# Altium footprint library PowerGet.PcbLib: 19 footprints (part 2 of 2)
Each footprint in its own frame and in the unit in brackets; x right, y up, seen from the top. Pads: shape width x height; smd on the part's side, far side on the other; paste and mask are expansions set on the pad; w line width, h text height; cw(c..) or ccw(c..) is an arc to the next point about the centre after c.
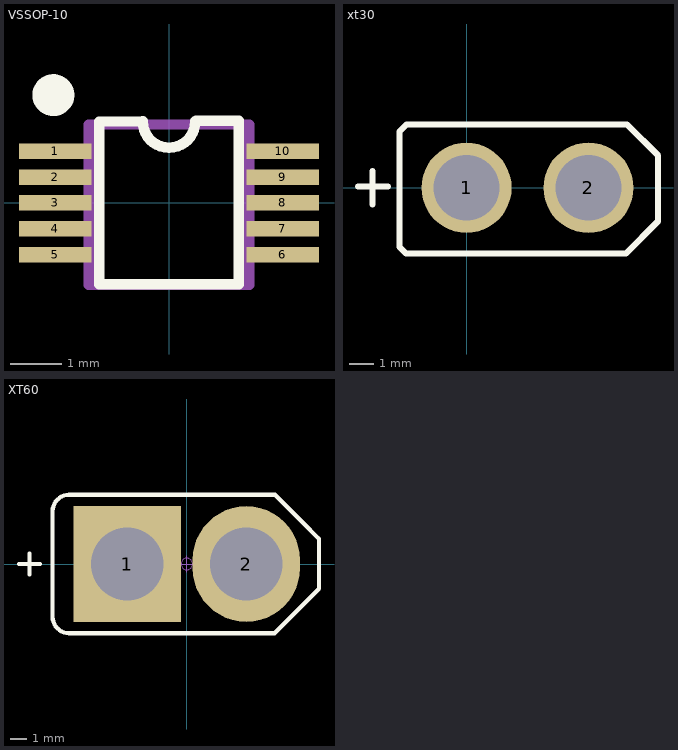
[diagram p1: the footprints below, top view; thin cyan lines are the x and y axes]

## VSSOP-10 [mm]
pads (10):
  rect 1.4x0.3 smd mask+0.05: 1(-2.2,1) 2(-2.2,0.5) 3(-2.2,0) 4(-2.2,-0.5) 5(-2.2,-1) 6(2.2,-1) 7(2.2,-0.5) 8(2.2,0) 9(2.2,0.5) 10(2.2,1)
Top Overlay:
  circle w0.5: c-2.235,2.083 r0.155
  lines w0.2: -0.508,1.575 -1.346,1.575 -1.346,-1.575 1.346,-1.575 1.346,1.591 0.524,1.591
  lines w0.203: -0.508,1.575 ccw(c0,1.575) 0,1.067 ccw(c0,1.575) 0.508,1.575
Mechanical 13:
  lines w0.2: -1.549,-1.586 -1.549,1.514 1.551,1.514 1.551,-1.586 -1.549,-1.586
3D body "User Library-DGS0010A.STEP": height 1.1, standoff 0, extent -2.462,-1.5 2.463,1.5

## xt30 [mm]
height 1.7
pads (2):
  round 3.7 hole 2.7: 1(0,0) 2(5,0)
Top Overlay:
  lines w0.254: -4.45,0.05 -3.225,0.05 ; -3.85,-0.675 -3.85,0.675 ; -2.75,-2.425 -2.75,2.3 -2.45,2.6 0,2.6 6.575,2.6 7.85,1.325 7.85,-1.375 6.525,-2.7 -2.475,-2.7 -2.75,-2.425
3D body "User Library-XT30.STEP": height 12.6, standoff -2.9, extent -2.625,-2.7 7.775,2.6

## XT60 [mm] "长：16mm，宽：8.2mm，高：16mm"
pads (2):
  rect 6.5x7 hole 4.4: 1(-3.6,0)
  oval 6.5x7 hole 4.4: 2(3.6,0)
Top Overlay:
  lines w0.254: -10.16,0 -8.89,0 ; -9.525,-0.635 -9.525,0.635 ; -8.128,-3.191 ccw(c-7.128,-3.191) -7.128,-4.191 5.309,-4.191 8,-1.5 8,1.525 6.985,2.54 5.334,4.191 -7.128,4.191 ccw(c-7.128,3.191) -8.128,3.191 -8.128,-3.191
Mechanical 15:
  circle w0.05: c0,0 r0.35
  lines w0.05: -0.5,0 0.5,0 ; 0,-0.5 0,0.5
3D body "TX60-LI-P.STEP": height 15.85, standoff -2.25, extent -8,-4.1 8,4.1